# Altium schematic symbol library SCH - CONNECTORS - 8 PIN.SCHLIB: 1 symbol
Pins are listed as number, name and electrical type; pins without a type are passive.

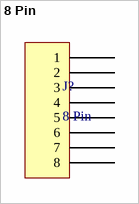
[diagram p0: symbol 8 Pin]

## 8 Pin
designator J?
footprint FCI 06-381-8PIN (FCI Pluggable Terminal Block)
pins: 1, 2, 3, 4, 5, 6, 7, 8